# Altium schematic symbol library FDD3N40TM.SchLib: 1 symbol
Pins are listed as number, name and electrical type; pins without a type are passive.

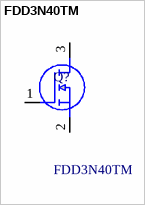
[diagram p0: symbol FDD3N40TM]

## FDD3N40TM
designator Q?
Low gate charge ( Typ. 4.5nC); 100% avalanche tested; RDS(on) = 3.4 ( Max.)@ VGS = 10V, ID = 1A; Low Crss ( Typ. 3.7pF); Manufacturer_Name: onsemi; Geometry.Height: 2.39mm; Mouser Part Number: 512-FDD3N40TM; Mouser Price/Stock: https://www.mouser.co.uk/ProductDetail/ON-Semiconductor-Fairchild/FDD3N40TM?qs=fZj41zbgrf2zZ9fPKAy2hg%3D%3D; Manufacturer_Part_Number: FDD3N40TM; Datasheet Link: https://www.onsemi.com/pub/Collateral/FDU3N40-D.pdf
footprint FDD3N40TM
pins: 1 G, 2 S, 3 D